# Altium integrated library Cypress Clocks & Buffers Clock Distribution.IntLib: 321 symbols (part 22 of 25)
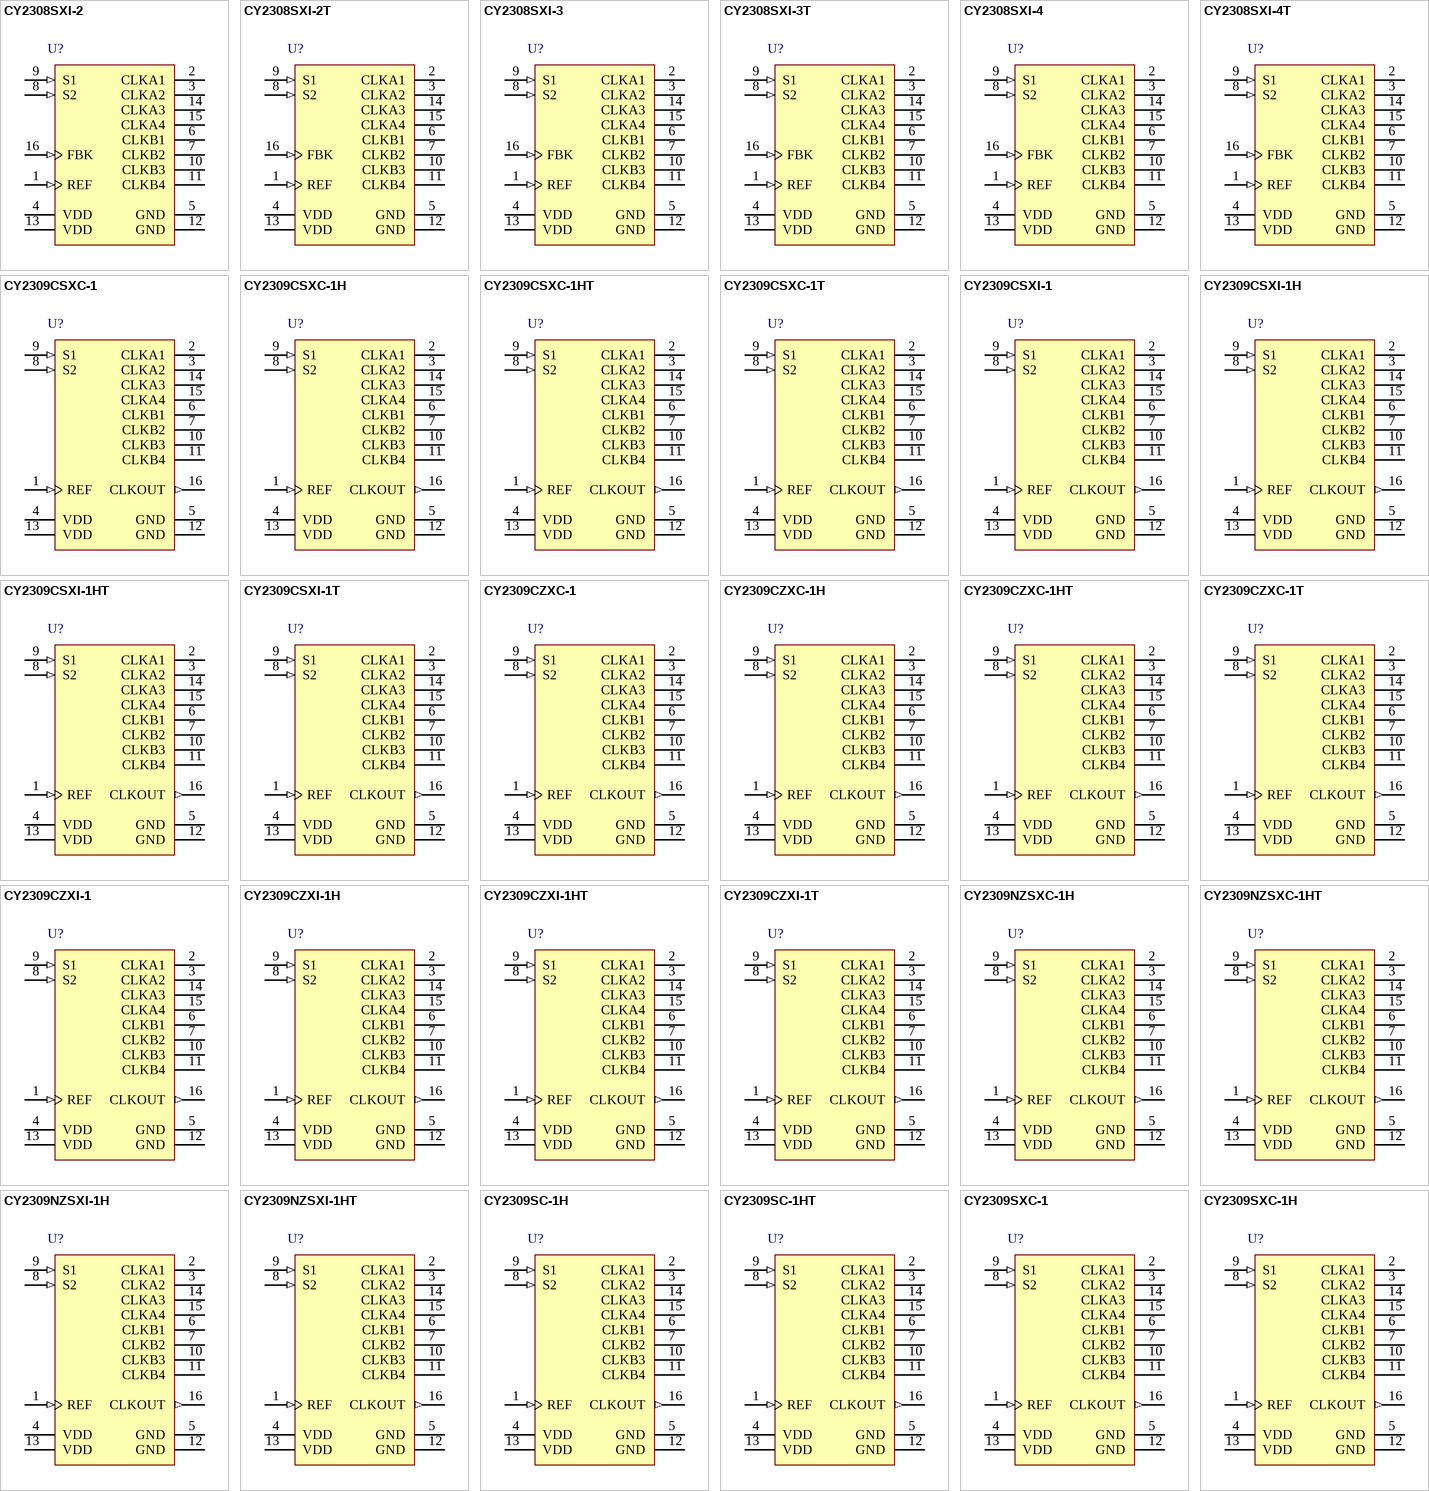
[diagram p37: symbols CY2308SXI-2 to CY2309SXC-1H]

## CY2309CSXI-1T
designator U?
Zero Delay Clock Buffer, 3.3 V, 9 Outputs, 10 to 133.33 MHz, -40 to 85 degC, 16-Pin SOIC (SX16), Tape and Reel; Manufacturer: Cypress; PartNumber: CY2309CSXI-1T; Input Frequency Max. (MHz): 133; Input Frequency Min. (MHz): 10; Max. Operating Voltage (V): 3.6; Min. Operating Voltage (V): 3; No. of Outputs: 9; Output Frequency Max. (MHz): 133.33; DatasheetVersion: Rev. *M; PackageVersion: Rev. *E, 09/2012; PackageReference: SX16; PackageDescription: 16-Pin SOIC (150 MIL), Body 9.89 x 3.90 mm, Pitch 1.27 mm; Supplier 1: Digi-Key; Supplier Part Number 1: CY2309CSXI-1T-ND; Supplier 2: Mouser; Supplier Part Number 2: 727-CY2309CSXI-1T; Max. Operating Temp. (degreesC): 85; Min. Operating Temp. (degreesC): -40; Output Frequency Min. (MHz): 10; Packing: Tape and Reel; RoHS: Pb-Free; Mounting Technology: Surface Mount; Code_JEDEC: MS-012; ComponentLink1Description: Manufacturer URL; ComponentLink1URL: http://www.cypress.com/; ComponentLink2Description: Datasheet; ComponentLink2URL: http://www.cypress.com/?docID=46973; ComponentLink3Description: Package Specification; ComponentLink3URL: http://www.cypress.com/?docID=39437
footprint CYP-SX16_N (SOIC, 16-Leads, Body 9.9x3.9mm, Pitch 1.27mm, IPC Medium Density)
footprint CYP-SX16_L (SOIC, 16-Leads, Body 9.9x3.9mm, Pitch 1.27mm, IPC High Density)
footprint CYP-SX16_M (SOIC, 16-Leads, Body 9.9x3.9mm, Pitch 1.27mm, IPC Low Density)
pins: 1 REF (in) "Input reference frequency", 2 CLKA1 (hiz) "Buffered clock output, Bank A", 3 CLKA2 (hiz) "Buffered clock output, Bank A", 4 VDD (power) "3.3 V supply", 5 GND (power) "Ground", 6 CLKB1 (hiz) "Buffered clock output, Bank B", 7 CLKB2 (hiz) "Buffered clock output, Bank B", 8 S2 (in) "Select input, bit 2", 9 S1 (in) "Select input, bit 1", 10 CLKB3 (hiz) "Buffered clock output, Bank B", 11 CLKB4 (hiz) "Buffered clock output, Bank B", 12 GND (power) "Ground", 13 VDD (power) "3.3 V supply", 14 CLKA3 (hiz) "Buffered clock output, Bank A", 15 CLKA4 (hiz) "Buffered clock output, Bank A", 16 CLKOUT (out) "Buffered output, internal feedback on this pin"

## CY2309CZXC-1
designator U?
Zero Delay Clock Buffer, 3.3 V, 9 Outputs, 10 to 133.33 MHz, 0 to 70 degC, 16-Pin TSSOP (ZX16), Tube; Manufacturer: Cypress; PartNumber: CY2309CZXC-1; Input Frequency Max. (MHz): 133; Input Frequency Min. (MHz): 10; Max. Operating Voltage (V): 3.6; Min. Operating Voltage (V): 3; No. of Outputs: 9; Output Frequency Max. (MHz): 133.33; DatasheetVersion: Rev. *M; PackageVersion: Rev. *D, 09/2011; PackageReference: ZX16; PackageDescription: 16-Pin Thin Shrink Small Outline Package, Body 5 x 4.4 mm, Pitch 0.65 mm; Supplier 1: Digi-Key; Supplier Part Number 1: CY2309CZXC-1-ND; Supplier 2: Mouser; Supplier Part Number 2: 727-CY2309CZXC-1; Max. Operating Temp. (degreesC): 70; Min. Operating Temp. (degreesC): 0; Output Frequency Min. (MHz): 10; Packing: Tube; RoHS: Pb-Free; Mounting Technology: Surface Mount; Code_JEDEC: MO-153; ComponentLink1Description: Manufacturer URL; ComponentLink1URL: http://www.cypress.com/; ComponentLink2Description: Datasheet; ComponentLink2URL: http://www.cypress.com/?docID=46973; ComponentLink3Description: Package Specification; ComponentLink3URL: http://www.cypress.com/?docID=39143
footprint CYP-ZX16_N (SOP, 16-Leads, Body 5.1x4.5mm, Pitch 0.65mm, IPC Medium Density)
footprint CYP-ZX16_L (SOP, 16-Leads, Body 5.1x4.5mm, Pitch 0.65mm, IPC High Density)
footprint CYP-ZX16_M (SOP, 16-Leads, Body 5.1x4.5mm, Pitch 0.65mm, IPC Low Density)
pins: 1 REF (in) "Input reference frequency", 2 CLKA1 (hiz) "Buffered clock output, Bank A", 3 CLKA2 (hiz) "Buffered clock output, Bank A", 4 VDD (power) "3.3 V supply", 5 GND (power) "Ground", 6 CLKB1 (hiz) "Buffered clock output, Bank B", 7 CLKB2 (hiz) "Buffered clock output, Bank B", 8 S2 (in) "Select input, bit 2", 9 S1 (in) "Select input, bit 1", 10 CLKB3 (hiz) "Buffered clock output, Bank B", 11 CLKB4 (hiz) "Buffered clock output, Bank B", 12 GND (power) "Ground", 13 VDD (power) "3.3 V supply", 14 CLKA3 (hiz) "Buffered clock output, Bank A", 15 CLKA4 (hiz) "Buffered clock output, Bank A", 16 CLKOUT (out) "Buffered output, internal feedback on this pin"

## CY2309CZXC-1H
designator U?
Zero Delay Clock Buffer, 3.3 V, 9 Outputs, 10 to 133.33 MHz, 0 to 70 degC, 16-Pin TSSOP (ZX16), Tube; Manufacturer: Cypress; PartNumber: CY2309CZXC-1H; Input Frequency Max. (MHz): 133; Input Frequency Min. (MHz): 10; Max. Operating Voltage (V): 3.6; Min. Operating Voltage (V): 3; No. of Outputs: 9; Output Frequency Max. (MHz): 133.33; DatasheetVersion: Rev. *M; PackageVersion: Rev. *D, 09/2011; PackageReference: ZX16; PackageDescription: 16-Pin Thin Shrink Small Outline Package, Body 5 x 4.4 mm, Pitch 0.65 mm; Supplier 1: Digi-Key; Supplier Part Number 1: CY2309CZXC-1H-ND; Supplier 2: Mouser; Supplier Part Number 2: 727-CY2309CZXC-1H; Max. Operating Temp. (degreesC): 70; Min. Operating Temp. (degreesC): 0; Output Frequency Min. (MHz): 10; Packing: Tube; RoHS: Pb-Free; Mounting Technology: Surface Mount; Code_JEDEC: MO-153; ComponentLink1Description: Manufacturer URL; ComponentLink1URL: http://www.cypress.com/; ComponentLink2Description: Datasheet; ComponentLink2URL: http://www.cypress.com/?docID=46973; ComponentLink3Description: Package Specification; ComponentLink3URL: http://www.cypress.com/?docID=39143
footprint CYP-ZX16_N (SOP, 16-Leads, Body 5.1x4.5mm, Pitch 0.65mm, IPC Medium Density)
footprint CYP-ZX16_L (SOP, 16-Leads, Body 5.1x4.5mm, Pitch 0.65mm, IPC High Density)
footprint CYP-ZX16_M (SOP, 16-Leads, Body 5.1x4.5mm, Pitch 0.65mm, IPC Low Density)
pins: 1 REF (in) "Input reference frequency", 2 CLKA1 (hiz) "Buffered clock output, Bank A", 3 CLKA2 (hiz) "Buffered clock output, Bank A", 4 VDD (power) "3.3 V supply", 5 GND (power) "Ground", 6 CLKB1 (hiz) "Buffered clock output, Bank B", 7 CLKB2 (hiz) "Buffered clock output, Bank B", 8 S2 (in) "Select input, bit 2", 9 S1 (in) "Select input, bit 1", 10 CLKB3 (hiz) "Buffered clock output, Bank B", 11 CLKB4 (hiz) "Buffered clock output, Bank B", 12 GND (power) "Ground", 13 VDD (power) "3.3 V supply", 14 CLKA3 (hiz) "Buffered clock output, Bank A", 15 CLKA4 (hiz) "Buffered clock output, Bank A", 16 CLKOUT (out) "Buffered output, internal feedback on this pin"

## CY2309CZXC-1HT
designator U?
Zero Delay Clock Buffer, 3.3 V, 9 Outputs, 10 to 133.33 MHz, 0 to 70 degC, 16-Pin TSSOP (ZX16), Tape and Reel; Manufacturer: Cypress; PartNumber: CY2309CZXC-1HT; Input Frequency Max. (MHz): 133; Input Frequency Min. (MHz): 10; Max. Operating Voltage (V): 3.6; Min. Operating Voltage (V): 3; No. of Outputs: 9; Output Frequency Max. (MHz): 133.33; DatasheetVersion: Rev. *M; PackageVersion: Rev. *D, 09/2011; PackageReference: ZX16; PackageDescription: 16-Pin Thin Shrink Small Outline Package, Body 5 x 4.4 mm, Pitch 0.65 mm; Supplier 1: Digi-Key; Supplier Part Number 1: CY2309CZXC-1HT-ND; Supplier 2: Mouser; Supplier Part Number 2: 727-CY2309CZXC-1HT; Max. Operating Temp. (degreesC): 70; Min. Operating Temp. (degreesC): 0; Output Frequency Min. (MHz): 10; Packing: Tape and Reel; RoHS: Pb-Free; Mounting Technology: Surface Mount; Code_JEDEC: MO-153; ComponentLink1Description: Manufacturer URL; ComponentLink1URL: http://www.cypress.com/; ComponentLink2Description: Datasheet; ComponentLink2URL: http://www.cypress.com/?docID=46973; ComponentLink3Description: Package Specification; ComponentLink3URL: http://www.cypress.com/?docID=39143
footprint CYP-ZX16_N (SOP, 16-Leads, Body 5.1x4.5mm, Pitch 0.65mm, IPC Medium Density)
footprint CYP-ZX16_L (SOP, 16-Leads, Body 5.1x4.5mm, Pitch 0.65mm, IPC High Density)
footprint CYP-ZX16_M (SOP, 16-Leads, Body 5.1x4.5mm, Pitch 0.65mm, IPC Low Density)
pins: 1 REF (in) "Input reference frequency", 2 CLKA1 (hiz) "Buffered clock output, Bank A", 3 CLKA2 (hiz) "Buffered clock output, Bank A", 4 VDD (power) "3.3 V supply", 5 GND (power) "Ground", 6 CLKB1 (hiz) "Buffered clock output, Bank B", 7 CLKB2 (hiz) "Buffered clock output, Bank B", 8 S2 (in) "Select input, bit 2", 9 S1 (in) "Select input, bit 1", 10 CLKB3 (hiz) "Buffered clock output, Bank B", 11 CLKB4 (hiz) "Buffered clock output, Bank B", 12 GND (power) "Ground", 13 VDD (power) "3.3 V supply", 14 CLKA3 (hiz) "Buffered clock output, Bank A", 15 CLKA4 (hiz) "Buffered clock output, Bank A", 16 CLKOUT (out) "Buffered output, internal feedback on this pin"

## CY2309CZXC-1T
designator U?
Zero Delay Clock Buffer, 3.3 V, 9 Outputs, 10 to 133.33 MHz, 0 to 70 degC, 16-Pin TSSOP (ZX16), Tape and Reel; Manufacturer: Cypress; PartNumber: CY2309CZXC-1T; Input Frequency Max. (MHz): 133; Input Frequency Min. (MHz): 10; Max. Operating Voltage (V): 3.6; Min. Operating Voltage (V): 3; No. of Outputs: 9; Output Frequency Max. (MHz): 133.33; DatasheetVersion: Rev. *M; PackageVersion: Rev. *D, 09/2011; PackageReference: ZX16; PackageDescription: 16-Pin Thin Shrink Small Outline Package, Body 5 x 4.4 mm, Pitch 0.65 mm; Supplier 1: Digi-Key; Supplier Part Number 1: CY2309CZXC-1T-ND; Supplier 2: Mouser; Supplier Part Number 2: 727-CY2309CZXC1T; Max. Operating Temp. (degreesC): 70; Min. Operating Temp. (degreesC): 0; Output Frequency Min. (MHz): 10; Packing: Tape and Reel; RoHS: Pb-Free; Mounting Technology: Surface Mount; Code_JEDEC: MO-153; ComponentLink1Description: Manufacturer URL; ComponentLink1URL: http://www.cypress.com/; ComponentLink2Description: Datasheet; ComponentLink2URL: http://www.cypress.com/?docID=46973; ComponentLink3Description: Package Specification; ComponentLink3URL: http://www.cypress.com/?docID=39143
footprint CYP-ZX16_N (SOP, 16-Leads, Body 5.1x4.5mm, Pitch 0.65mm, IPC Medium Density)
footprint CYP-ZX16_L (SOP, 16-Leads, Body 5.1x4.5mm, Pitch 0.65mm, IPC High Density)
footprint CYP-ZX16_M (SOP, 16-Leads, Body 5.1x4.5mm, Pitch 0.65mm, IPC Low Density)
pins: 1 REF (in) "Input reference frequency", 2 CLKA1 (hiz) "Buffered clock output, Bank A", 3 CLKA2 (hiz) "Buffered clock output, Bank A", 4 VDD (power) "3.3 V supply", 5 GND (power) "Ground", 6 CLKB1 (hiz) "Buffered clock output, Bank B", 7 CLKB2 (hiz) "Buffered clock output, Bank B", 8 S2 (in) "Select input, bit 2", 9 S1 (in) "Select input, bit 1", 10 CLKB3 (hiz) "Buffered clock output, Bank B", 11 CLKB4 (hiz) "Buffered clock output, Bank B", 12 GND (power) "Ground", 13 VDD (power) "3.3 V supply", 14 CLKA3 (hiz) "Buffered clock output, Bank A", 15 CLKA4 (hiz) "Buffered clock output, Bank A", 16 CLKOUT (out) "Buffered output, internal feedback on this pin"

## CY2309CZXI-1
designator U?
Zero Delay Clock Buffer, 3.3 V, 9 Outputs, 10 to 133.33 MHz, -40 to 85 degC, 16-Pin TSSOP (ZX16), Tube; Manufacturer: Cypress; PartNumber: CY2309CZXI-1; Input Frequency Max. (MHz): 133; Input Frequency Min. (MHz): 10; Max. Operating Voltage (V): 3.6; Min. Operating Voltage (V): 3; No. of Outputs: 9; Output Frequency Max. (MHz): 133.33; DatasheetVersion: Rev. *M; PackageVersion: Rev. *D, 09/2011; PackageReference: ZX16; PackageDescription: 16-Pin Thin Shrink Small Outline Package, Body 5 x 4.4 mm, Pitch 0.65 mm; Supplier 1: Digi-Key; Supplier Part Number 1: CY2309CZXI-1-ND; Supplier 2: Mouser; Supplier Part Number 2: 727-CY2309CZXI1; Max. Operating Temp. (degreesC): 85; Min. Operating Temp. (degreesC): -40; Output Frequency Min. (MHz): 10; Packing: Tube; RoHS: Pb-Free; Mounting Technology: Surface Mount; Code_JEDEC: MO-153; ComponentLink1Description: Manufacturer URL; ComponentLink1URL: http://www.cypress.com/; ComponentLink2Description: Datasheet; ComponentLink2URL: http://www.cypress.com/?docID=46973; ComponentLink3Description: Package Specification; ComponentLink3URL: http://www.cypress.com/?docID=39143
footprint CYP-ZX16_N (SOP, 16-Leads, Body 5.1x4.5mm, Pitch 0.65mm, IPC Medium Density)
footprint CYP-ZX16_L (SOP, 16-Leads, Body 5.1x4.5mm, Pitch 0.65mm, IPC High Density)
footprint CYP-ZX16_M (SOP, 16-Leads, Body 5.1x4.5mm, Pitch 0.65mm, IPC Low Density)
pins: 1 REF (in) "Input reference frequency", 2 CLKA1 (hiz) "Buffered clock output, Bank A", 3 CLKA2 (hiz) "Buffered clock output, Bank A", 4 VDD (power) "3.3 V supply", 5 GND (power) "Ground", 6 CLKB1 (hiz) "Buffered clock output, Bank B", 7 CLKB2 (hiz) "Buffered clock output, Bank B", 8 S2 (in) "Select input, bit 2", 9 S1 (in) "Select input, bit 1", 10 CLKB3 (hiz) "Buffered clock output, Bank B", 11 CLKB4 (hiz) "Buffered clock output, Bank B", 12 GND (power) "Ground", 13 VDD (power) "3.3 V supply", 14 CLKA3 (hiz) "Buffered clock output, Bank A", 15 CLKA4 (hiz) "Buffered clock output, Bank A", 16 CLKOUT (out) "Buffered output, internal feedback on this pin"

## CY2309CZXI-1H
designator U?
Zero Delay Clock Buffer, 3.3 V, 9 Outputs, 10 to 133.33 MHz, -40 to 85 degC, 16-Pin TSSOP (ZX16), Tube; Manufacturer: Cypress; PartNumber: CY2309CZXI-1H; Input Frequency Max. (MHz): 133; Input Frequency Min. (MHz): 10; Max. Operating Voltage (V): 3.6; Min. Operating Voltage (V): 3; No. of Outputs: 9; Output Frequency Max. (MHz): 133.33; DatasheetVersion: Rev. *M; PackageVersion: Rev. *D, 09/2011; PackageReference: ZX16; PackageDescription: 16-Pin Thin Shrink Small Outline Package, Body 5 x 4.4 mm, Pitch 0.65 mm; Supplier 1: Digi-Key; Supplier Part Number 1: CY2309CZXI-1H-ND; Supplier 2: Mouser; Supplier Part Number 2: 727-CY2309CZXI-1H; Max. Operating Temp. (degreesC): 85; Min. Operating Temp. (degreesC): -40; Output Frequency Min. (MHz): 10; Packing: Tube; RoHS: Pb-Free; Mounting Technology: Surface Mount; Code_JEDEC: MO-153; ComponentLink1Description: Manufacturer URL; ComponentLink1URL: http://www.cypress.com/; ComponentLink2Description: Datasheet; ComponentLink2URL: http://www.cypress.com/?docID=46973; ComponentLink3Description: Package Specification; ComponentLink3URL: http://www.cypress.com/?docID=39143
footprint CYP-ZX16_N (SOP, 16-Leads, Body 5.1x4.5mm, Pitch 0.65mm, IPC Medium Density)
footprint CYP-ZX16_L (SOP, 16-Leads, Body 5.1x4.5mm, Pitch 0.65mm, IPC High Density)
footprint CYP-ZX16_M (SOP, 16-Leads, Body 5.1x4.5mm, Pitch 0.65mm, IPC Low Density)
pins: 1 REF (in) "Input reference frequency", 2 CLKA1 (hiz) "Buffered clock output, Bank A", 3 CLKA2 (hiz) "Buffered clock output, Bank A", 4 VDD (power) "3.3 V supply", 5 GND (power) "Ground", 6 CLKB1 (hiz) "Buffered clock output, Bank B", 7 CLKB2 (hiz) "Buffered clock output, Bank B", 8 S2 (in) "Select input, bit 2", 9 S1 (in) "Select input, bit 1", 10 CLKB3 (hiz) "Buffered clock output, Bank B", 11 CLKB4 (hiz) "Buffered clock output, Bank B", 12 GND (power) "Ground", 13 VDD (power) "3.3 V supply", 14 CLKA3 (hiz) "Buffered clock output, Bank A", 15 CLKA4 (hiz) "Buffered clock output, Bank A", 16 CLKOUT (out) "Buffered output, internal feedback on this pin"

## CY2309CZXI-1HT
designator U?
Zero Delay Clock Buffer, 3.3 V, 9 Outputs, 10 to 133.33 MHz, -40 to 85 degC, 16-Pin TSSOP (ZX16), Tape and Reel; Manufacturer: Cypress; PartNumber: CY2309CZXI-1HT; Input Frequency Max. (MHz): 133; Input Frequency Min. (MHz): 10; Max. Operating Voltage (V): 3.6; Min. Operating Voltage (V): 3; No. of Outputs: 9; Output Frequency Max. (MHz): 133.33; DatasheetVersion: Rev. *M; PackageVersion: Rev. *D, 09/2011; PackageReference: ZX16; PackageDescription: 16-Pin Thin Shrink Small Outline Package, Body 5 x 4.4 mm, Pitch 0.65 mm; Supplier 1: Digi-Key; Supplier Part Number 1: CY2309CZXI-1HT-ND; Supplier 2: Mouser; Supplier Part Number 2: 727-CY2309CZXI-1HT; Max. Operating Temp. (degreesC): 85; Min. Operating Temp. (degreesC): -40; Output Frequency Min. (MHz): 10; Packing: Tape and Reel; RoHS: Pb-Free; Mounting Technology: Surface Mount; Code_JEDEC: MO-153; ComponentLink1Description: Manufacturer URL; ComponentLink1URL: http://www.cypress.com/; ComponentLink2Description: Datasheet; ComponentLink2URL: http://www.cypress.com/?docID=46973; ComponentLink3Description: Package Specification; ComponentLink3URL: http://www.cypress.com/?docID=39143
footprint CYP-ZX16_N (SOP, 16-Leads, Body 5.1x4.5mm, Pitch 0.65mm, IPC Medium Density)
footprint CYP-ZX16_L (SOP, 16-Leads, Body 5.1x4.5mm, Pitch 0.65mm, IPC High Density)
footprint CYP-ZX16_M (SOP, 16-Leads, Body 5.1x4.5mm, Pitch 0.65mm, IPC Low Density)
pins: 1 REF (in) "Input reference frequency", 2 CLKA1 (hiz) "Buffered clock output, Bank A", 3 CLKA2 (hiz) "Buffered clock output, Bank A", 4 VDD (power) "3.3 V supply", 5 GND (power) "Ground", 6 CLKB1 (hiz) "Buffered clock output, Bank B", 7 CLKB2 (hiz) "Buffered clock output, Bank B", 8 S2 (in) "Select input, bit 2", 9 S1 (in) "Select input, bit 1", 10 CLKB3 (hiz) "Buffered clock output, Bank B", 11 CLKB4 (hiz) "Buffered clock output, Bank B", 12 GND (power) "Ground", 13 VDD (power) "3.3 V supply", 14 CLKA3 (hiz) "Buffered clock output, Bank A", 15 CLKA4 (hiz) "Buffered clock output, Bank A", 16 CLKOUT (out) "Buffered output, internal feedback on this pin"

## CY2309CZXI-1T
designator U?
Zero Delay Clock Buffer, 3.3 V, 9 Outputs, 10 to 133.33 MHz, -40 to 85 degC, 16-Pin TSSOP (ZX16), Tape and Reel; Manufacturer: Cypress; PartNumber: CY2309CZXI-1T; Input Frequency Max. (MHz): 133; Input Frequency Min. (MHz): 10; Max. Operating Voltage (V): 3.6; Min. Operating Voltage (V): 3; No. of Outputs: 9; Output Frequency Max. (MHz): 133.33; DatasheetVersion: Rev. *M; PackageVersion: Rev. *D, 09/2011; PackageReference: ZX16; PackageDescription: 16-Pin Thin Shrink Small Outline Package, Body 5 x 4.4 mm, Pitch 0.65 mm; Supplier 1: Digi-Key; Supplier Part Number 1: CY2309CZXI-1T-ND; Supplier 2: Mouser; Supplier Part Number 2: 727-CY2309CZXI1T; Max. Operating Temp. (degreesC): 85; Min. Operating Temp. (degreesC): -40; Output Frequency Min. (MHz): 10; Packing: Tape and Reel; RoHS: Pb-Free; Mounting Technology: Surface Mount; Code_JEDEC: MO-153; ComponentLink1Description: Manufacturer URL; ComponentLink1URL: http://www.cypress.com/; ComponentLink2Description: Datasheet; ComponentLink2URL: http://www.cypress.com/?docID=46973; ComponentLink3Description: Package Specification; ComponentLink3URL: http://www.cypress.com/?docID=39143
footprint CYP-ZX16_N (SOP, 16-Leads, Body 5.1x4.5mm, Pitch 0.65mm, IPC Medium Density)
footprint CYP-ZX16_L (SOP, 16-Leads, Body 5.1x4.5mm, Pitch 0.65mm, IPC High Density)
footprint CYP-ZX16_M (SOP, 16-Leads, Body 5.1x4.5mm, Pitch 0.65mm, IPC Low Density)
pins: 1 REF (in) "Input reference frequency", 2 CLKA1 (hiz) "Buffered clock output, Bank A", 3 CLKA2 (hiz) "Buffered clock output, Bank A", 4 VDD (power) "3.3 V supply", 5 GND (power) "Ground", 6 CLKB1 (hiz) "Buffered clock output, Bank B", 7 CLKB2 (hiz) "Buffered clock output, Bank B", 8 S2 (in) "Select input, bit 2", 9 S1 (in) "Select input, bit 1", 10 CLKB3 (hiz) "Buffered clock output, Bank B", 11 CLKB4 (hiz) "Buffered clock output, Bank B", 12 GND (power) "Ground", 13 VDD (power) "3.3 V supply", 14 CLKA3 (hiz) "Buffered clock output, Bank A", 15 CLKA4 (hiz) "Buffered clock output, Bank A", 16 CLKOUT (out) "Buffered output, internal feedback on this pin"

## CY2309NZSXC-1H
designator U?
Buffer, 3.3 V, 9 Outputs, 133.33 MHz Maximum, 0 to 70 degC, 16-Pin SOIC (SX16), Tube; Manufacturer: Cypress; PartNumber: CY2309NZSXC-1H; Input Frequency Max. (MHz): 133.33; Max. Operating Voltage (V): 3.6; Min. Operating Voltage (V): 3; No. of Outputs: 9; DatasheetVersion: Rev. *H; PackageVersion: Rev. *E, 09/2012; PackageReference: SX16; PackageDescription: 16-Pin SOIC (150 MIL), Body 9.89 x 3.90 mm, Pitch 1.27 mm; Supplier 1: Digi-Key; Supplier Part Number 1: 428-2204-5-ND; Supplier 2: Farnell; Supplier Part Number 2: 1837339; Supplier 3: Newark; Supplier Part Number 3: 19M5958; Supplier 4: Mouser; Supplier Part Number 4: 727-CY2309NZSXC-1H; Max. Operating Temp. (degreesC): 70; Min. Operating Temp. (degreesC): 0; Output Frequency Max. (MHz): 133.33; Packing: Tube; RoHS: Pb-Free; Mounting Technology: Surface Mount; Code_JEDEC: MS-012; ComponentLink1Description: Manufacturer URL; ComponentLink1URL: http://www.cypress.com/; ComponentLink2Description: Datasheet; ComponentLink2URL: http://www.cypress.com/?docID=46971; ComponentLink3Description: Package Specification; ComponentLink3URL: http://www.cypress.com/?docID=39437
footprint CYP-SX16_N (SOIC, 16-Leads, Body 9.9x3.9mm, Pitch 1.27mm, IPC Medium Density)
footprint CYP-SX16_L (SOIC, 16-Leads, Body 9.9x3.9mm, Pitch 1.27mm, IPC High Density)
footprint CYP-SX16_M (SOIC, 16-Leads, Body 9.9x3.9mm, Pitch 1.27mm, IPC Low Density)
pins: 1 REF (in) "Input reference frequency", 2 CLKA1 (hiz) "Buffered clock output, Bank A", 3 CLKA2 (hiz) "Buffered clock output, Bank A", 4 VDD (power) "3.3 V supply", 5 GND (power) "Ground", 6 CLKB1 (hiz) "Buffered clock output, Bank B", 7 CLKB2 (hiz) "Buffered clock output, Bank B", 8 S2 (in) "Select input, bit 2", 9 S1 (in) "Select input, bit 1", 10 CLKB3 (hiz) "Buffered clock output, Bank B", 11 CLKB4 (hiz) "Buffered clock output, Bank B", 12 GND (power) "Ground", 13 VDD (power) "3.3 V supply", 14 CLKA3 (hiz) "Buffered clock output, Bank A", 15 CLKA4 (hiz) "Buffered clock output, Bank A", 16 CLKOUT (out) "Buffered output, internal feedback on this pin"

## CY2309NZSXC-1HT
designator U?
Buffer, 3.3 V, 9 Outputs, 133.33 MHz Maximum, 0 to 70 degC, 16-Pin SOIC (SX16), Tape and Reel; Manufacturer: Cypress; PartNumber: CY2309NZSXC-1HT; Input Frequency Max. (MHz): 133.33; Max. Operating Voltage (V): 3.6; Min. Operating Voltage (V): 3; No. of Outputs: 9; DatasheetVersion: Rev. *H; PackageVersion: Rev. *E, 09/2012; PackageReference: SX16; PackageDescription: 16-Pin SOIC (150 MIL), Body 9.89 x 3.90 mm, Pitch 1.27 mm; Supplier 1: Digi-Key; Supplier Part Number 1: CY2309NZSXC-1HT-ND; Supplier 2: Mouser; Supplier Part Number 2: 727-CY2309NZSXC-1HT; Max. Operating Temp. (degreesC): 70; Min. Operating Temp. (degreesC): 0; Output Frequency Max. (MHz): 133.33; Packing: Tape and Reel; RoHS: Pb-Free; Mounting Technology: Surface Mount; Code_JEDEC: MS-012; ComponentLink1Description: Manufacturer URL; ComponentLink1URL: http://www.cypress.com/; ComponentLink2Description: Datasheet; ComponentLink2URL: http://www.cypress.com/?docID=46971; ComponentLink3Description: Package Specification; ComponentLink3URL: http://www.cypress.com/?docID=39437
footprint CYP-SX16_N (SOIC, 16-Leads, Body 9.9x3.9mm, Pitch 1.27mm, IPC Medium Density)
footprint CYP-SX16_L (SOIC, 16-Leads, Body 9.9x3.9mm, Pitch 1.27mm, IPC High Density)
footprint CYP-SX16_M (SOIC, 16-Leads, Body 9.9x3.9mm, Pitch 1.27mm, IPC Low Density)
pins: 1 REF (in) "Input reference frequency", 2 CLKA1 (hiz) "Buffered clock output, Bank A", 3 CLKA2 (hiz) "Buffered clock output, Bank A", 4 VDD (power) "3.3 V supply", 5 GND (power) "Ground", 6 CLKB1 (hiz) "Buffered clock output, Bank B", 7 CLKB2 (hiz) "Buffered clock output, Bank B", 8 S2 (in) "Select input, bit 2", 9 S1 (in) "Select input, bit 1", 10 CLKB3 (hiz) "Buffered clock output, Bank B", 11 CLKB4 (hiz) "Buffered clock output, Bank B", 12 GND (power) "Ground", 13 VDD (power) "3.3 V supply", 14 CLKA3 (hiz) "Buffered clock output, Bank A", 15 CLKA4 (hiz) "Buffered clock output, Bank A", 16 CLKOUT (out) "Buffered output, internal feedback on this pin"

## CY2309NZSXI-1H
designator U?
Buffer, 3.3 V, 9 Outputs, 133.33 MHz Maximum, -40 to 85 degC, 16-Pin SOIC (SX16), Tube; Manufacturer: Cypress; PartNumber: CY2309NZSXI-1H; Input Frequency Max. (MHz): 133.33; Max. Operating Voltage (V): 3.6; Min. Operating Voltage (V): 3; No. of Outputs: 9; DatasheetVersion: Rev. *H; PackageVersion: Rev. *E, 09/2012; PackageReference: SX16; PackageDescription: 16-Pin SOIC (150 MIL), Body 9.89 x 3.90 mm, Pitch 1.27 mm; Supplier 1: Digi-Key; Supplier Part Number 1: 428-2205-5-ND; Supplier 2: Newark; Supplier Part Number 2: 19M5959; Supplier 3: Mouser; Supplier Part Number 3: 727-CY2309NZSXI-1H; Max. Operating Temp. (degreesC): 85; Min. Operating Temp. (degreesC): -40; Output Frequency Max. (MHz): 133.33; Packing: Tube; RoHS: Pb-Free; Mounting Technology: Surface Mount; Code_JEDEC: MS-012; ComponentLink1Description: Manufacturer URL; ComponentLink1URL: http://www.cypress.com/; ComponentLink2Description: Datasheet; ComponentLink2URL: http://www.cypress.com/?docID=46971; ComponentLink3Description: Package Specification; ComponentLink3URL: http://www.cypress.com/?docID=39437
footprint CYP-SX16_N (SOIC, 16-Leads, Body 9.9x3.9mm, Pitch 1.27mm, IPC Medium Density)
footprint CYP-SX16_L (SOIC, 16-Leads, Body 9.9x3.9mm, Pitch 1.27mm, IPC High Density)
footprint CYP-SX16_M (SOIC, 16-Leads, Body 9.9x3.9mm, Pitch 1.27mm, IPC Low Density)
pins: 1 REF (in) "Input reference frequency", 2 CLKA1 (hiz) "Buffered clock output, Bank A", 3 CLKA2 (hiz) "Buffered clock output, Bank A", 4 VDD (power) "3.3 V supply", 5 GND (power) "Ground", 6 CLKB1 (hiz) "Buffered clock output, Bank B", 7 CLKB2 (hiz) "Buffered clock output, Bank B", 8 S2 (in) "Select input, bit 2", 9 S1 (in) "Select input, bit 1", 10 CLKB3 (hiz) "Buffered clock output, Bank B", 11 CLKB4 (hiz) "Buffered clock output, Bank B", 12 GND (power) "Ground", 13 VDD (power) "3.3 V supply", 14 CLKA3 (hiz) "Buffered clock output, Bank A", 15 CLKA4 (hiz) "Buffered clock output, Bank A", 16 CLKOUT (out) "Buffered output, internal feedback on this pin"

## CY2309NZSXI-1HT
designator U?
Buffer, 3.3 V, 9 Outputs, 133.33 MHz Maximum, -40 to 85 degC, 16-Pin SOIC (SX16), Tape and Reel; Manufacturer: Cypress; PartNumber: CY2309NZSXI-1HT; Input Frequency Max. (MHz): 133.33; Max. Operating Voltage (V): 3.6; Min. Operating Voltage (V): 3; No. of Outputs: 9; DatasheetVersion: Rev. *H; PackageVersion: Rev. *E, 09/2012; PackageReference: SX16; PackageDescription: 16-Pin SOIC (150 MIL), Body 9.89 x 3.90 mm, Pitch 1.27 mm; Supplier 1: Digi-Key; Supplier Part Number 1: CY2309NZSXI-1HT-ND; Supplier 2: Newark; Supplier Part Number 2: 19M2226; Supplier 3: Mouser; Supplier Part Number 3: 727-CY2309NZSXI-1HT; Max. Operating Temp. (degreesC): 85; Min. Operating Temp. (degreesC): -40; Output Frequency Max. (MHz): 133.33; Packing: Tape and Reel; RoHS: Pb-Free; Mounting Technology: Surface Mount; Code_JEDEC: MS-012; ComponentLink1Description: Manufacturer URL; ComponentLink1URL: http://www.cypress.com/; ComponentLink2Description: Datasheet; ComponentLink2URL: http://www.cypress.com/?docID=46971; ComponentLink3Description: Package Specification; ComponentLink3URL: http://www.cypress.com/?docID=39437
footprint CYP-SX16_N (SOIC, 16-Leads, Body 9.9x3.9mm, Pitch 1.27mm, IPC Medium Density)
footprint CYP-SX16_L (SOIC, 16-Leads, Body 9.9x3.9mm, Pitch 1.27mm, IPC High Density)
footprint CYP-SX16_M (SOIC, 16-Leads, Body 9.9x3.9mm, Pitch 1.27mm, IPC Low Density)
pins: 1 REF (in) "Input reference frequency", 2 CLKA1 (hiz) "Buffered clock output, Bank A", 3 CLKA2 (hiz) "Buffered clock output, Bank A", 4 VDD (power) "3.3 V supply", 5 GND (power) "Ground", 6 CLKB1 (hiz) "Buffered clock output, Bank B", 7 CLKB2 (hiz) "Buffered clock output, Bank B", 8 S2 (in) "Select input, bit 2", 9 S1 (in) "Select input, bit 1", 10 CLKB3 (hiz) "Buffered clock output, Bank B", 11 CLKB4 (hiz) "Buffered clock output, Bank B", 12 GND (power) "Ground", 13 VDD (power) "3.3 V supply", 14 CLKA3 (hiz) "Buffered clock output, Bank A", 15 CLKA4 (hiz) "Buffered clock output, Bank A", 16 CLKOUT (out) "Buffered output, internal feedback on this pin"

## CY2309SC-1H
designator U?
Low Cost Zero Delay Buffer, 3.3 V, 9 Outputs, 10 to 133.33 MHz, 0 to 70 degC, 16-Pin SOIC (S16), Tube; Manufacturer: Cypress; PartNumber: CY2309SC-1H; Input Frequency Max. (MHz): 133; Input Frequency Min. (MHz): 10; Max. Operating Voltage (V): 3.6; Min. Operating Voltage (V): 3; No. of Outputs: 9; Output Frequency Max. (MHz): 133.33; DatasheetVersion: Rev. *R; PackageVersion: Rev. *E, 09/2012; PackageReference: S16; PackageDescription: 16-Pin Small Outline Integrated Circuit Package, Body 9.893 x 3.8985 mm, Pitch 1.27 mm; Supplier 1: Digi-Key; Supplier Part Number 1: 428-1367-ND; Supplier 2: Mouser; Supplier Part Number 2: 727-CY2309SC-1H; Max. Operating Temp. (degreesC): 70; Min. Operating Temp. (degreesC): 0; Output Frequency Min. (MHz): 10; Packing: Tube; Mounting Technology: Surface Mount; Code_JEDEC: MS-012; ComponentLink1Description: Manufacturer URL; ComponentLink1URL: http://www.cypress.com/; ComponentLink2Description: Datasheet; ComponentLink2URL: http://www.cypress.com/?docID=46691; ComponentLink3Description: Package Specification; ComponentLink3URL: http://www.cypress.com/?docID=41580
footprint CYP-S16_N (SOIC, 16-Leads, Body 10x4mm, Pitch 1.27mm, IPC Medium Density)
footprint CYP-S16_L (SOIC, 16-Leads, Body 10x4mm, Pitch 1.27mm, IPC High Density)
footprint CYP-S16_M (SOIC, 16-Leads, Body 10x4mm, Pitch 1.27mm, IPC Low Density)
pins: 1 REF (in) "Input reference frequency", 2 CLKA1 (hiz) "Buffered clock output, Bank A", 3 CLKA2 (hiz) "Buffered clock output, Bank A", 4 VDD (power) "3.3 V supply", 5 GND (power) "Ground", 6 CLKB1 (hiz) "Buffered clock output, Bank B", 7 CLKB2 (hiz) "Buffered clock output, Bank B", 8 S2 (in) "Select input, bit 2", 9 S1 (in) "Select input, bit 1", 10 CLKB3 (hiz) "Buffered clock output, Bank B", 11 CLKB4 (hiz) "Buffered clock output, Bank B", 12 GND (power) "Ground", 13 VDD (power) "3.3 V supply", 14 CLKA3 (hiz) "Buffered clock output, Bank A", 15 CLKA4 (hiz) "Buffered clock output, Bank A", 16 CLKOUT (out) "Buffered output, internal feedback on this pin"

## CY2309SC-1HT
designator U?
Low Cost Zero Delay Buffer, 3.3 V, 9 Outputs, 10 to 133.33 MHz, 0 to 70 degC, 16-Pin SOIC (S16), Tape and Reel; Manufacturer: Cypress; PartNumber: CY2309SC-1HT; Input Frequency Max. (MHz): 133; Input Frequency Min. (MHz): 10; Max. Operating Voltage (V): 3.6; Min. Operating Voltage (V): 3; No. of Outputs: 9; Output Frequency Max. (MHz): 133.33; DatasheetVersion: Rev. *R; PackageVersion: Rev. *E, 09/2012; PackageReference: S16; PackageDescription: 16-Pin Small Outline Integrated Circuit Package, Body 9.893 x 3.8985 mm, Pitch 1.27 mm; Supplier 1: Mouser; Supplier Part Number 1: 727-CY2309SC-1HT; Max. Operating Temp. (degreesC): 70; Min. Operating Temp. (degreesC): 0; Output Frequency Min. (MHz): 10; Packing: Tape and Reel; Mounting Technology: Surface Mount; Code_JEDEC: MS-012; ComponentLink1Description: Manufacturer URL; ComponentLink1URL: http://www.cypress.com/; ComponentLink2Description: Datasheet; ComponentLink2URL: http://www.cypress.com/?docID=46691; ComponentLink3Description: Package Specification; ComponentLink3URL: http://www.cypress.com/?docID=41580
footprint CYP-S16_N (SOIC, 16-Leads, Body 10x4mm, Pitch 1.27mm, IPC Medium Density)
footprint CYP-S16_L (SOIC, 16-Leads, Body 10x4mm, Pitch 1.27mm, IPC High Density)
footprint CYP-S16_M (SOIC, 16-Leads, Body 10x4mm, Pitch 1.27mm, IPC Low Density)
pins: 1 REF (in) "Input reference frequency", 2 CLKA1 (hiz) "Buffered clock output, Bank A", 3 CLKA2 (hiz) "Buffered clock output, Bank A", 4 VDD (power) "3.3 V supply", 5 GND (power) "Ground", 6 CLKB1 (hiz) "Buffered clock output, Bank B", 7 CLKB2 (hiz) "Buffered clock output, Bank B", 8 S2 (in) "Select input, bit 2", 9 S1 (in) "Select input, bit 1", 10 CLKB3 (hiz) "Buffered clock output, Bank B", 11 CLKB4 (hiz) "Buffered clock output, Bank B", 12 GND (power) "Ground", 13 VDD (power) "3.3 V supply", 14 CLKA3 (hiz) "Buffered clock output, Bank A", 15 CLKA4 (hiz) "Buffered clock output, Bank A", 16 CLKOUT (out) "Buffered output, internal feedback on this pin"

## CY2309SXC-1
designator U?
Low Cost Zero Delay Buffer, 3.3 V, 9 Outputs, 10 to 133.33 MHz, 0 to 70 degC, 16-Pin SOIC (SX16), Tube; Manufacturer: Cypress; PartNumber: CY2309SXC-1; Input Frequency Max. (MHz): 133; Input Frequency Min. (MHz): 10; Max. Operating Voltage (V): 3.6; Min. Operating Voltage (V): 3; No. of Outputs: 9; Output Frequency Max. (MHz): 133.33; DatasheetVersion: Rev. *R; PackageVersion: Rev. *E, 09/2012; PackageReference: SX16; PackageDescription: 16-Pin SOIC (150 MIL), Body 9.89 x 3.90 mm, Pitch 1.27 mm; Supplier 1: Digi-Key; Supplier Part Number 1: 428-2206-5-ND; Supplier 2: Newark; Supplier Part Number 2: 19M2235; Supplier 3: Mouser; Supplier Part Number 3: 727-CY2309SXC-1; Max. Operating Temp. (degreesC): 70; Min. Operating Temp. (degreesC): 0; Output Frequency Min. (MHz): 10; Packing: Tube; RoHS: Pb-Free; Mounting Technology: Surface Mount; Code_JEDEC: MS-012; ComponentLink1Description: Manufacturer URL; ComponentLink1URL: http://www.cypress.com/; ComponentLink2Description: Datasheet; ComponentLink2URL: http://www.cypress.com/?docID=46691; ComponentLink3Description: Package Specification; ComponentLink3URL: http://www.cypress.com/?docID=39437
footprint CYP-SX16_N (SOIC, 16-Leads, Body 9.9x3.9mm, Pitch 1.27mm, IPC Medium Density)
footprint CYP-SX16_L (SOIC, 16-Leads, Body 9.9x3.9mm, Pitch 1.27mm, IPC High Density)
footprint CYP-SX16_M (SOIC, 16-Leads, Body 9.9x3.9mm, Pitch 1.27mm, IPC Low Density)
pins: 1 REF (in) "Input reference frequency", 2 CLKA1 (hiz) "Buffered clock output, Bank A", 3 CLKA2 (hiz) "Buffered clock output, Bank A", 4 VDD (power) "3.3 V supply", 5 GND (power) "Ground", 6 CLKB1 (hiz) "Buffered clock output, Bank B", 7 CLKB2 (hiz) "Buffered clock output, Bank B", 8 S2 (in) "Select input, bit 2", 9 S1 (in) "Select input, bit 1", 10 CLKB3 (hiz) "Buffered clock output, Bank B", 11 CLKB4 (hiz) "Buffered clock output, Bank B", 12 GND (power) "Ground", 13 VDD (power) "3.3 V supply", 14 CLKA3 (hiz) "Buffered clock output, Bank A", 15 CLKA4 (hiz) "Buffered clock output, Bank A", 16 CLKOUT (out) "Buffered output, internal feedback on this pin"

## CY2309SXC-1H
designator U?
Low Cost Zero Delay Buffer, 3.3 V, 9 Outputs, 10 to 133.33 MHz, 0 to 70 degC, 16-Pin SOIC (SX16), Tube; Manufacturer: Cypress; PartNumber: CY2309SXC-1H; Input Frequency Max. (MHz): 133; Input Frequency Min. (MHz): 10; Max. Operating Voltage (V): 3.6; Min. Operating Voltage (V): 3; No. of Outputs: 9; Output Frequency Max. (MHz): 133.33; DatasheetVersion: Rev. *R; PackageVersion: Rev. *E, 09/2012; PackageReference: SX16; PackageDescription: 16-Pin SOIC (150 MIL), Body 9.89 x 3.90 mm, Pitch 1.27 mm; Supplier 1: Digi-Key; Supplier Part Number 1: 428-2207-5-ND; Supplier 2: Newark; Supplier Part Number 2: 19M2236; Supplier 3: Mouser; Supplier Part Number 3: 727-CY2309SXC-1H; Max. Operating Temp. (degreesC): 70; Min. Operating Temp. (degreesC): 0; Output Frequency Min. (MHz): 10; Packing: Tube; RoHS: Pb-Free; Mounting Technology: Surface Mount; Code_JEDEC: MS-012; ComponentLink1Description: Manufacturer URL; ComponentLink1URL: http://www.cypress.com/; ComponentLink2Description: Datasheet; ComponentLink2URL: http://www.cypress.com/?docID=46691; ComponentLink3Description: Package Specification; ComponentLink3URL: http://www.cypress.com/?docID=39437
footprint CYP-SX16_N (SOIC, 16-Leads, Body 9.9x3.9mm, Pitch 1.27mm, IPC Medium Density)
footprint CYP-SX16_L (SOIC, 16-Leads, Body 9.9x3.9mm, Pitch 1.27mm, IPC High Density)
footprint CYP-SX16_M (SOIC, 16-Leads, Body 9.9x3.9mm, Pitch 1.27mm, IPC Low Density)
pins: 1 REF (in) "Input reference frequency", 2 CLKA1 (hiz) "Buffered clock output, Bank A", 3 CLKA2 (hiz) "Buffered clock output, Bank A", 4 VDD (power) "3.3 V supply", 5 GND (power) "Ground", 6 CLKB1 (hiz) "Buffered clock output, Bank B", 7 CLKB2 (hiz) "Buffered clock output, Bank B", 8 S2 (in) "Select input, bit 2", 9 S1 (in) "Select input, bit 1", 10 CLKB3 (hiz) "Buffered clock output, Bank B", 11 CLKB4 (hiz) "Buffered clock output, Bank B", 12 GND (power) "Ground", 13 VDD (power) "3.3 V supply", 14 CLKA3 (hiz) "Buffered clock output, Bank A", 15 CLKA4 (hiz) "Buffered clock output, Bank A", 16 CLKOUT (out) "Buffered output, internal feedback on this pin"

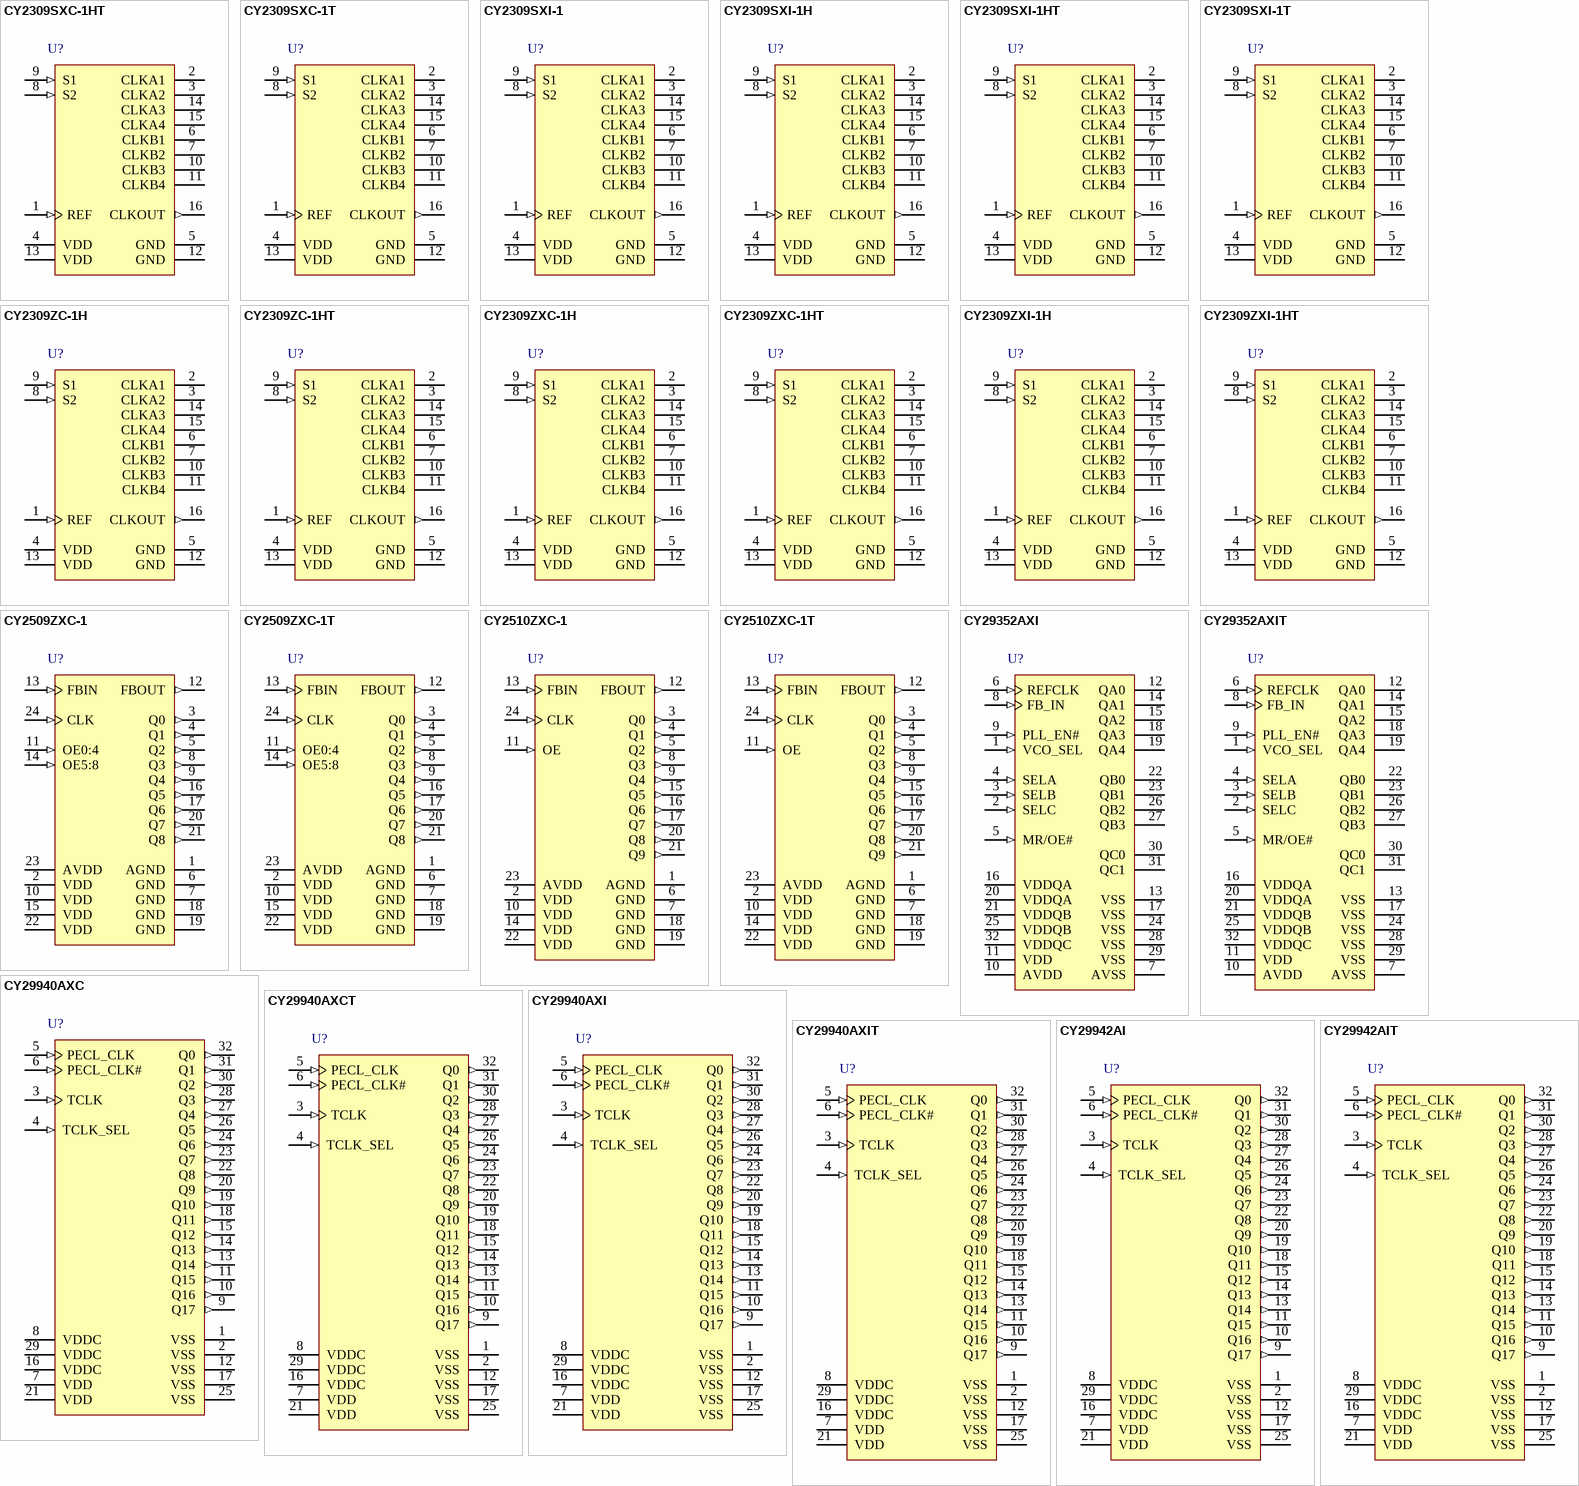
[diagram p14: symbols CY2309SXC-1HT to CY29942AIT]

## CY2309SXC-1HT
designator U?
Low Cost Zero Delay Buffer, 3.3 V, 9 Outputs, 10 to 133.33 MHz, 0 to 70 degC, 16-Pin SOIC (SX16), Tape and Reel; Manufacturer: Cypress; PartNumber: CY2309SXC-1HT; Input Frequency Max. (MHz): 133; Input Frequency Min. (MHz): 10; Max. Operating Voltage (V): 3.6; Min. Operating Voltage (V): 3; No. of Outputs: 9; Output Frequency Max. (MHz): 133.33; DatasheetVersion: Rev. *R; PackageVersion: Rev. *E, 09/2012; PackageReference: SX16; PackageDescription: 16-Pin SOIC (150 MIL), Body 9.89 x 3.90 mm, Pitch 1.27 mm; Supplier 1: Digi-Key; Supplier Part Number 1: CY2309SXC-1HT-ND; Supplier 2: Newark; Supplier Part Number 2: 19M2237; Supplier 3: Mouser; Supplier Part Number 3: 727-CY2309SXC-1HT; Max. Operating Temp. (degreesC): 70; Min. Operating Temp. (degreesC): 0; Output Frequency Min. (MHz): 10; Packing: Tape and Reel; RoHS: Pb-Free; Mounting Technology: Surface Mount; Code_JEDEC: MS-012; ComponentLink1Description: Manufacturer URL; ComponentLink1URL: http://www.cypress.com/; ComponentLink2Description: Datasheet; ComponentLink2URL: http://www.cypress.com/?docID=46691; ComponentLink3Description: Package Specification; ComponentLink3URL: http://www.cypress.com/?docID=39437
footprint CYP-SX16_N (SOIC, 16-Leads, Body 9.9x3.9mm, Pitch 1.27mm, IPC Medium Density)
footprint CYP-SX16_L (SOIC, 16-Leads, Body 9.9x3.9mm, Pitch 1.27mm, IPC High Density)
footprint CYP-SX16_M (SOIC, 16-Leads, Body 9.9x3.9mm, Pitch 1.27mm, IPC Low Density)
pins: 1 REF (in) "Input reference frequency", 2 CLKA1 (hiz) "Buffered clock output, Bank A", 3 CLKA2 (hiz) "Buffered clock output, Bank A", 4 VDD (power) "3.3 V supply", 5 GND (power) "Ground", 6 CLKB1 (hiz) "Buffered clock output, Bank B", 7 CLKB2 (hiz) "Buffered clock output, Bank B", 8 S2 (in) "Select input, bit 2", 9 S1 (in) "Select input, bit 1", 10 CLKB3 (hiz) "Buffered clock output, Bank B", 11 CLKB4 (hiz) "Buffered clock output, Bank B", 12 GND (power) "Ground", 13 VDD (power) "3.3 V supply", 14 CLKA3 (hiz) "Buffered clock output, Bank A", 15 CLKA4 (hiz) "Buffered clock output, Bank A", 16 CLKOUT (out) "Buffered output, internal feedback on this pin"

## CY2309SXC-1T
designator U?
Low Cost Zero Delay Buffer, 3.3 V, 9 Outputs, 10 to 133.33 MHz, 0 to 70 degC, 16-Pin SOIC (SX16), Tape and Reel; Manufacturer: Cypress; PartNumber: CY2309SXC-1T; Input Frequency Max. (MHz): 133; Input Frequency Min. (MHz): 10; Max. Operating Voltage (V): 3.6; Min. Operating Voltage (V): 3; No. of Outputs: 9; Output Frequency Max. (MHz): 133.33; DatasheetVersion: Rev. *R; PackageVersion: Rev. *E, 09/2012; PackageReference: SX16; PackageDescription: 16-Pin SOIC (150 MIL), Body 9.89 x 3.90 mm, Pitch 1.27 mm; Supplier 1: Digi-Key; Supplier Part Number 1: CY2309SXC-1T-ND; Supplier 2: Newark; Supplier Part Number 2: 19M2238; Supplier 3: Mouser; Supplier Part Number 3: 727-CY2309SXC-1T; Max. Operating Temp. (degreesC): 70; Min. Operating Temp. (degreesC): 0; Output Frequency Min. (MHz): 10; Packing: Tape and Reel; RoHS: Pb-Free; Mounting Technology: Surface Mount; Code_JEDEC: MS-012; ComponentLink1Description: Manufacturer URL; ComponentLink1URL: http://www.cypress.com/; ComponentLink2Description: Datasheet; ComponentLink2URL: http://www.cypress.com/?docID=46691; ComponentLink3Description: Package Specification; ComponentLink3URL: http://www.cypress.com/?docID=39437
footprint CYP-SX16_N (SOIC, 16-Leads, Body 9.9x3.9mm, Pitch 1.27mm, IPC Medium Density)
footprint CYP-SX16_L (SOIC, 16-Leads, Body 9.9x3.9mm, Pitch 1.27mm, IPC High Density)
footprint CYP-SX16_M (SOIC, 16-Leads, Body 9.9x3.9mm, Pitch 1.27mm, IPC Low Density)
pins: 1 REF (in) "Input reference frequency", 2 CLKA1 (hiz) "Buffered clock output, Bank A", 3 CLKA2 (hiz) "Buffered clock output, Bank A", 4 VDD (power) "3.3 V supply", 5 GND (power) "Ground", 6 CLKB1 (hiz) "Buffered clock output, Bank B", 7 CLKB2 (hiz) "Buffered clock output, Bank B", 8 S2 (in) "Select input, bit 2", 9 S1 (in) "Select input, bit 1", 10 CLKB3 (hiz) "Buffered clock output, Bank B", 11 CLKB4 (hiz) "Buffered clock output, Bank B", 12 GND (power) "Ground", 13 VDD (power) "3.3 V supply", 14 CLKA3 (hiz) "Buffered clock output, Bank A", 15 CLKA4 (hiz) "Buffered clock output, Bank A", 16 CLKOUT (out) "Buffered output, internal feedback on this pin"

## CY2309SXI-1
designator U?
Low Cost Zero Delay Buffer, 3.3 V, 9 Outputs, 10 to 133.33 MHz, -40 to 85 degC, 16-Pin SOIC (SX16), Tube; Manufacturer: Cypress; PartNumber: CY2309SXI-1; Input Frequency Max. (MHz): 133; Input Frequency Min. (MHz): 10; Max. Operating Voltage (V): 3.6; Min. Operating Voltage (V): 3; No. of Outputs: 9; Output Frequency Max. (MHz): 133.33; DatasheetVersion: Rev. *R; PackageVersion: Rev. *E, 09/2012; PackageReference: SX16; PackageDescription: 16-Pin SOIC (150 MIL), Body 9.89 x 3.90 mm, Pitch 1.27 mm; Supplier 1: Digi-Key; Supplier Part Number 1: 428-2897-5-ND; Supplier 2: Farnell; Supplier Part Number 2: 1876328; Supplier 3: Newark; Supplier Part Number 3: 19M2239; Supplier 4: Mouser; Supplier Part Number 4: 727-CY2309SXI1; Max. Operating Temp. (degreesC): 85; Min. Operating Temp. (degreesC): -40; Output Frequency Min. (MHz): 10; Packing: Tube; RoHS: Pb-Free; Mounting Technology: Surface Mount; Code_JEDEC: MS-012; ComponentLink1Description: Manufacturer URL; ComponentLink1URL: http://www.cypress.com/; ComponentLink2Description: Datasheet; ComponentLink2URL: http://www.cypress.com/?docID=46691; ComponentLink3Description: Package Specification; ComponentLink3URL: http://www.cypress.com/?docID=39437
footprint CYP-SX16_N (SOIC, 16-Leads, Body 9.9x3.9mm, Pitch 1.27mm, IPC Medium Density)
footprint CYP-SX16_L (SOIC, 16-Leads, Body 9.9x3.9mm, Pitch 1.27mm, IPC High Density)
footprint CYP-SX16_M (SOIC, 16-Leads, Body 9.9x3.9mm, Pitch 1.27mm, IPC Low Density)
pins: 1 REF (in) "Input reference frequency", 2 CLKA1 (hiz) "Buffered clock output, Bank A", 3 CLKA2 (hiz) "Buffered clock output, Bank A", 4 VDD (power) "3.3 V supply", 5 GND (power) "Ground", 6 CLKB1 (hiz) "Buffered clock output, Bank B", 7 CLKB2 (hiz) "Buffered clock output, Bank B", 8 S2 (in) "Select input, bit 2", 9 S1 (in) "Select input, bit 1", 10 CLKB3 (hiz) "Buffered clock output, Bank B", 11 CLKB4 (hiz) "Buffered clock output, Bank B", 12 GND (power) "Ground", 13 VDD (power) "3.3 V supply", 14 CLKA3 (hiz) "Buffered clock output, Bank A", 15 CLKA4 (hiz) "Buffered clock output, Bank A", 16 CLKOUT (out) "Buffered output, internal feedback on this pin"

## CY2309SXI-1H
designator U?
Low Cost Zero Delay Buffer, 3.3 V, 9 Outputs, 10 to 133.33 MHz, -40 to 85 degC, 16-Pin SOIC (SX16), Tube; Manufacturer: Cypress; PartNumber: CY2309SXI-1H; Input Frequency Max. (MHz): 133; Input Frequency Min. (MHz): 10; Max. Operating Voltage (V): 3.6; Min. Operating Voltage (V): 3; No. of Outputs: 9; Output Frequency Max. (MHz): 133.33; DatasheetVersion: Rev. *R; PackageVersion: Rev. *E, 09/2012; PackageReference: SX16; PackageDescription: 16-Pin SOIC (150 MIL), Body 9.89 x 3.90 mm, Pitch 1.27 mm; Supplier 1: Digi-Key; Supplier Part Number 1: 428-2208-5-ND; Supplier 2: Farnell; Supplier Part Number 2: 1876329; Supplier 3: Newark; Supplier Part Number 3: 19M2240; Supplier 4: Mouser; Supplier Part Number 4: 727-CY2309SXI1H; Max. Operating Temp. (degreesC): 85; Min. Operating Temp. (degreesC): -40; Output Frequency Min. (MHz): 10; Packing: Tube; RoHS: Pb-Free; Mounting Technology: Surface Mount; Code_JEDEC: MS-012; ComponentLink1Description: Manufacturer URL; ComponentLink1URL: http://www.cypress.com/; ComponentLink2Description: Datasheet; ComponentLink2URL: http://www.cypress.com/?docID=46691; ComponentLink3Description: Package Specification; ComponentLink3URL: http://www.cypress.com/?docID=39437
footprint CYP-SX16_N (SOIC, 16-Leads, Body 9.9x3.9mm, Pitch 1.27mm, IPC Medium Density)
footprint CYP-SX16_L (SOIC, 16-Leads, Body 9.9x3.9mm, Pitch 1.27mm, IPC High Density)
footprint CYP-SX16_M (SOIC, 16-Leads, Body 9.9x3.9mm, Pitch 1.27mm, IPC Low Density)
pins: 1 REF (in) "Input reference frequency", 2 CLKA1 (hiz) "Buffered clock output, Bank A", 3 CLKA2 (hiz) "Buffered clock output, Bank A", 4 VDD (power) "3.3 V supply", 5 GND (power) "Ground", 6 CLKB1 (hiz) "Buffered clock output, Bank B", 7 CLKB2 (hiz) "Buffered clock output, Bank B", 8 S2 (in) "Select input, bit 2", 9 S1 (in) "Select input, bit 1", 10 CLKB3 (hiz) "Buffered clock output, Bank B", 11 CLKB4 (hiz) "Buffered clock output, Bank B", 12 GND (power) "Ground", 13 VDD (power) "3.3 V supply", 14 CLKA3 (hiz) "Buffered clock output, Bank A", 15 CLKA4 (hiz) "Buffered clock output, Bank A", 16 CLKOUT (out) "Buffered output, internal feedback on this pin"

## CY2309SXI-1HT
designator U?
Low Cost Zero Delay Buffer, 3.3 V, 9 Outputs, 10 to 133.33 MHz, -40 to 85 degC, 16-Pin SOIC (SX16), Tape and Reel; Manufacturer: Cypress; PartNumber: CY2309SXI-1HT; Input Frequency Max. (MHz): 133; Input Frequency Min. (MHz): 10; Max. Operating Voltage (V): 3.6; Min. Operating Voltage (V): 3; No. of Outputs: 9; Output Frequency Max. (MHz): 133.33; DatasheetVersion: Rev. *R; PackageVersion: Rev. *E, 09/2012; PackageReference: SX16; PackageDescription: 16-Pin SOIC (150 MIL), Body 9.89 x 3.90 mm, Pitch 1.27 mm; Supplier 1: Digi-Key; Supplier Part Number 1: CY2309SXI-1HT-ND; Supplier 2: Newark; Supplier Part Number 2: 19M2241; Supplier 3: Mouser; Supplier Part Number 3: 727-CY2309SXI-1HT; Max. Operating Temp. (degreesC): 85; Min. Operating Temp. (degreesC): -40; Output Frequency Min. (MHz): 10; Packing: Tape and Reel; RoHS: Pb-Free; Mounting Technology: Surface Mount; Code_JEDEC: MS-012; ComponentLink1Description: Manufacturer URL; ComponentLink1URL: http://www.cypress.com/; ComponentLink2Description: Datasheet; ComponentLink2URL: http://www.cypress.com/?docID=46691; ComponentLink3Description: Package Specification; ComponentLink3URL: http://www.cypress.com/?docID=39437
footprint CYP-SX16_N (SOIC, 16-Leads, Body 9.9x3.9mm, Pitch 1.27mm, IPC Medium Density)
footprint CYP-SX16_L (SOIC, 16-Leads, Body 9.9x3.9mm, Pitch 1.27mm, IPC High Density)
footprint CYP-SX16_M (SOIC, 16-Leads, Body 9.9x3.9mm, Pitch 1.27mm, IPC Low Density)
pins: 1 REF (in) "Input reference frequency", 2 CLKA1 (hiz) "Buffered clock output, Bank A", 3 CLKA2 (hiz) "Buffered clock output, Bank A", 4 VDD (power) "3.3 V supply", 5 GND (power) "Ground", 6 CLKB1 (hiz) "Buffered clock output, Bank B", 7 CLKB2 (hiz) "Buffered clock output, Bank B", 8 S2 (in) "Select input, bit 2", 9 S1 (in) "Select input, bit 1", 10 CLKB3 (hiz) "Buffered clock output, Bank B", 11 CLKB4 (hiz) "Buffered clock output, Bank B", 12 GND (power) "Ground", 13 VDD (power) "3.3 V supply", 14 CLKA3 (hiz) "Buffered clock output, Bank A", 15 CLKA4 (hiz) "Buffered clock output, Bank A", 16 CLKOUT (out) "Buffered output, internal feedback on this pin"

## CY2309SXI-1T
designator U?
Low Cost Zero Delay Buffer, 3.3 V, 9 Outputs, 10 to 133.33 MHz, -40 to 85 degC, 16-Pin SOIC (SX16), Tape and Reel; Manufacturer: Cypress; PartNumber: CY2309SXI-1T; Input Frequency Max. (MHz): 133; Input Frequency Min. (MHz): 10; Max. Operating Voltage (V): 3.6; Min. Operating Voltage (V): 3; No. of Outputs: 9; Output Frequency Max. (MHz): 133.33; DatasheetVersion: Rev. *R; PackageVersion: Rev. *E, 09/2012; PackageReference: SX16; PackageDescription: 16-Pin SOIC (150 MIL), Body 9.89 x 3.90 mm, Pitch 1.27 mm; Supplier 1: Digi-Key; Supplier Part Number 1: CY2309SXI-1T-ND; Supplier 2: Mouser; Supplier Part Number 2: 727-CY2309SXI-1T; Max. Operating Temp. (degreesC): 85; Min. Operating Temp. (degreesC): -40; Output Frequency Min. (MHz): 10; Packing: Tape and Reel; RoHS: Pb-Free; Mounting Technology: Surface Mount; Code_JEDEC: MS-012; ComponentLink1Description: Manufacturer URL; ComponentLink1URL: http://www.cypress.com/; ComponentLink2Description: Datasheet; ComponentLink2URL: http://www.cypress.com/?docID=46691; ComponentLink3Description: Package Specification; ComponentLink3URL: http://www.cypress.com/?docID=39437
footprint CYP-SX16_N (SOIC, 16-Leads, Body 9.9x3.9mm, Pitch 1.27mm, IPC Medium Density)
footprint CYP-SX16_L (SOIC, 16-Leads, Body 9.9x3.9mm, Pitch 1.27mm, IPC High Density)
footprint CYP-SX16_M (SOIC, 16-Leads, Body 9.9x3.9mm, Pitch 1.27mm, IPC Low Density)
pins: 1 REF (in) "Input reference frequency", 2 CLKA1 (hiz) "Buffered clock output, Bank A", 3 CLKA2 (hiz) "Buffered clock output, Bank A", 4 VDD (power) "3.3 V supply", 5 GND (power) "Ground", 6 CLKB1 (hiz) "Buffered clock output, Bank B", 7 CLKB2 (hiz) "Buffered clock output, Bank B", 8 S2 (in) "Select input, bit 2", 9 S1 (in) "Select input, bit 1", 10 CLKB3 (hiz) "Buffered clock output, Bank B", 11 CLKB4 (hiz) "Buffered clock output, Bank B", 12 GND (power) "Ground", 13 VDD (power) "3.3 V supply", 14 CLKA3 (hiz) "Buffered clock output, Bank A", 15 CLKA4 (hiz) "Buffered clock output, Bank A", 16 CLKOUT (out) "Buffered output, internal feedback on this pin"